# Altium footprint library RLC.PcbLib: 151 footprints (part 6 of 10)
Each footprint in its own frame and in the unit in brackets; x right, y up, seen from the top. Pads: shape width x height; smd on the part's side, far side on the other; paste and mask are expansions set on the pad; w line width, h text height; cw(c..) or ccw(c..) is an arc to the next point about the centre after c.
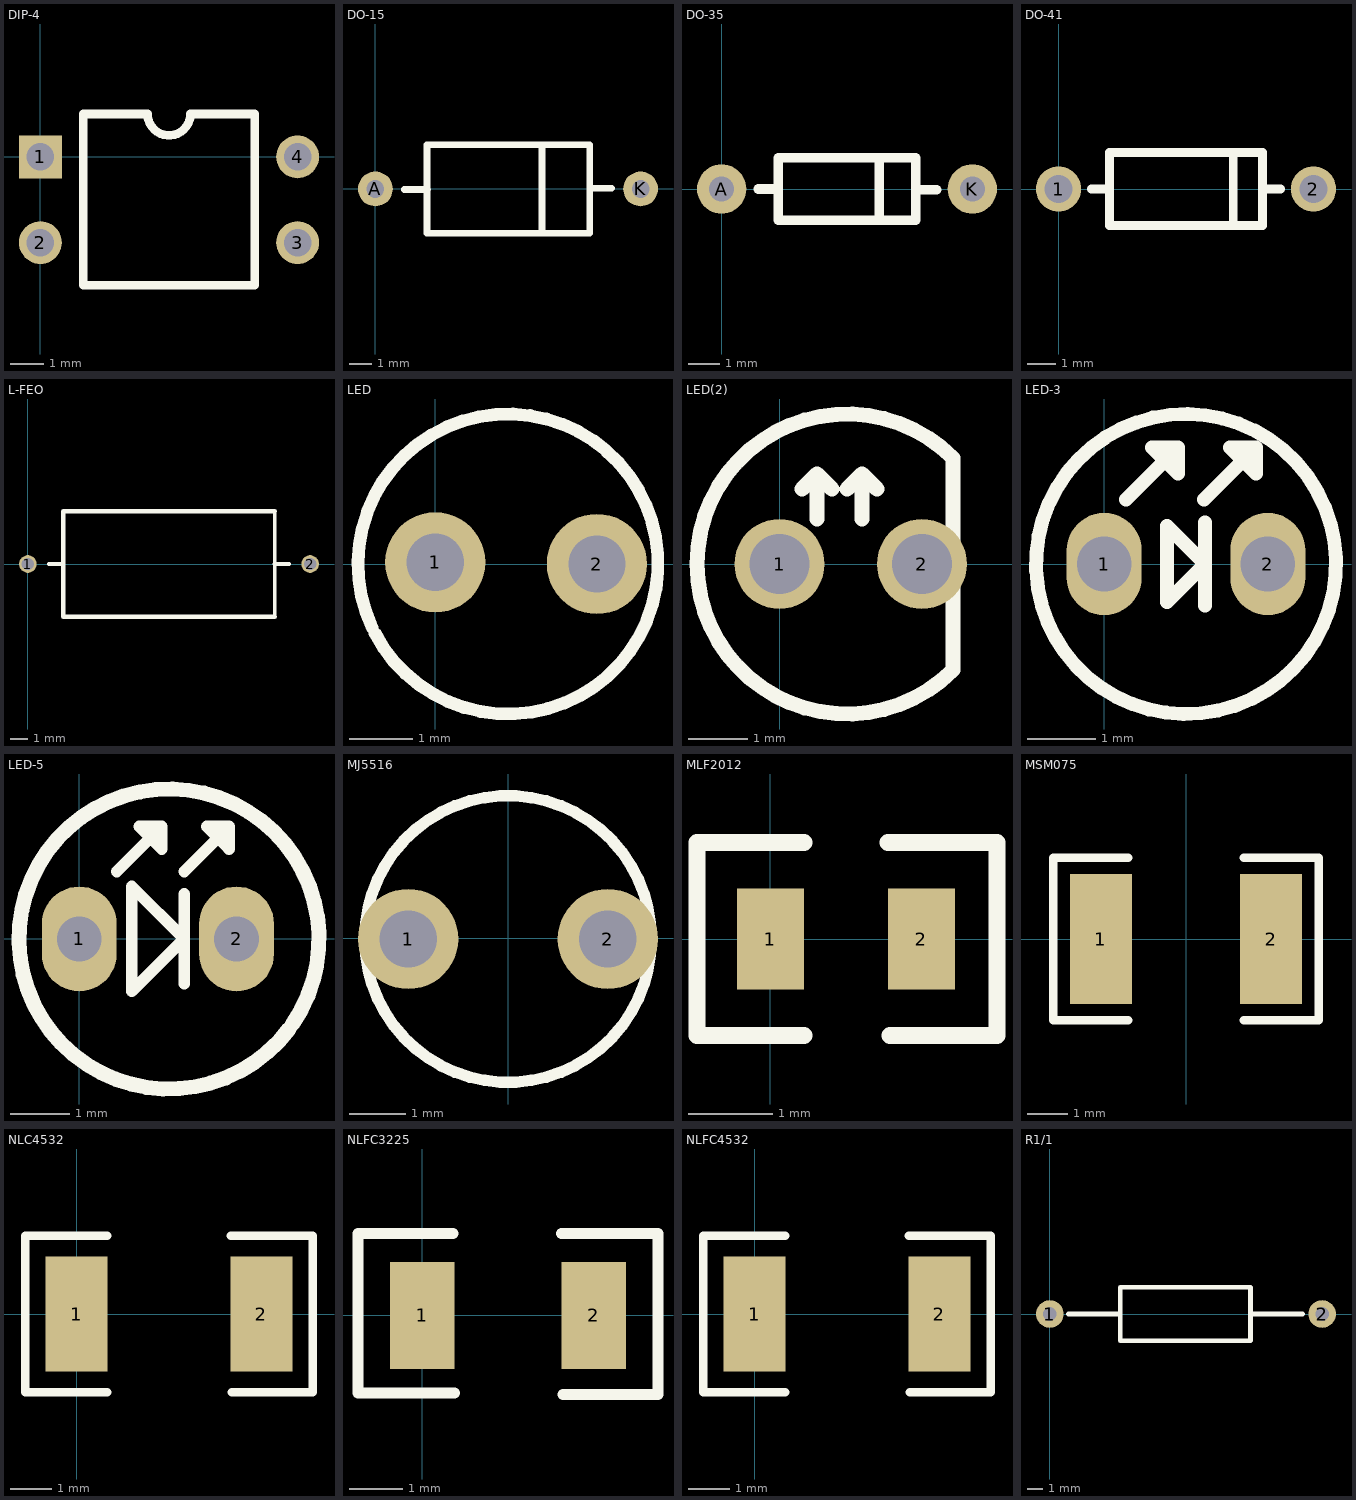
[diagram p5: the footprints below, top view; thin cyan lines are the x and y axes]

## DIP-4 [mil]
pads (4):
  rect 50x50 hole 32: 1(0,0)
  round 50 hole 32: 2(0,-100) 3(300,-100) 4(300,0)
Top Overlay:
  lines w10: 50,-150 250,-150 250,50 175,50 cw(c150,50) 125,50 50,50 50,-150

## DO-15 [mil]
pads (2):
  round 62 hole 31.5: A(0,0) K(472.44,0)
Top Overlay:
  lines w12: 51.18,-1 93,-1 ; 92,-78.74 381.89,-78.74 ; 92,-78 92,78.48 ; 92,78.74 381.89,78.74 ; 297,-78.74 297,78.74 ; 382,-79 382,78.48 ; 388,1 421.26,1

## DO-35 [mil]
pads (2):
  round 62 hole 31.5: A(0,0) K(314.96,0)
Top Overlay:
  lines w12: 46,0 71,0 ; 198,-39.37 198,39.37 ; 245,-1 270,-1 ; 71,-39.37 71,39.37 244,39.37 244,-39.37 71,-39.37

## DO-41 [mil]
pads (2):
  round 62 hole 38: 1(0,0) 2(350,0)
Top Overlay:
  lines w12: 45,0 70,0 ; 240,-50 240,50 ; 280,0 305,0 ; 70,-50 70,50 280,50 280,-50 70,-50

## L-FEO [mm]
pads (2):
  round 1 hole 0.7: 1(0,0) 2(16,0)
Top Overlay:
  lines w0.2: 14,-3 14,3
  lines w0.254: 1.2,0 2,0 ; 14,-3 2,-3 2,3 14,3 ; 14,0 14.8,0

## LED [mil]
pads (2):
  round 62 hole 35.43: 1(0,1) 2(100,0)
Top Overlay:
  lines w7.87: -38.95,-39.51 cw(c45,0) -37.34,-42.75

## LED(2) [mil]
pads (2):
  round 60 hole 40: 1(0,0) 2(95,0)
Top Overlay:
  lines w10: 15,50 25,60 ; 25,30 25,60 ; 35,50 25,60 ; 45,50 55,60 ; 55,30 55,60 ; 65,50 55,60 ; 115.71,-70.71 cw(c45,0) 115.71,70.71 115.71,-70.71

## LED-3 [mm]
pads (2):
  oval 1.1x1.5 hole 0.8: 1(0,0) 2(2.4,0)
Top Overlay:
  lines w0.203: 0.322,0.946 1.084,1.708 ; 1.465,0.946 2.227,1.708 ; 1.479,-0.61 1.479,0.61 ; 3.116,1.082 ccw(c1.2,0) 3.128,1.06 ; 1.084,1.708 1.084,1.327 0.703,1.708 1.084,1.708 ; 2.227,1.708 1.846,1.708 2.227,1.327 2.227,1.708 ; 0.921,-0.559 0.921,0.559 1.479,0 0.921,-0.559

## LED-5 [mil]
pads (2):
  oval 50x70 hole 30: 1(0,0) 2(105,0)
Top Overlay:
  lines w7.78: 25,45 55,75 ; 70,-30 70,30 ; 70,45 100,75 ; 55,75 55,60 40,75 55,75 ; 100,75 100,60 85,75 100,75 ; 35,-35 35,35 70,0 35,-35
  lines w10: 140,-60.15 cw(c59.9,-0.07) 142.31,-56.94

## MJ5516 [mil]
pads (2):
  round 70 hole 40: 1(-69.69,-0.35) 2(69.68,-0.35)
Top Overlay:
  circle w8: c0,-0.35 r100

## MLF2012 [mm]
pads (2):
  rect 0.8x1.2 smd: 1(0,0) 2(1.8,0)
Top Overlay:
  lines w0.203: 0.4,-1.15 -0.875,-1.15 -0.875,1.15 0.4,1.15 ; 1.4,1.15 2.7,1.15 2.7,-1.15 1.425,-1.15

## MSM075 [mm]
pads (2):
  rect 1.524x3.2 smd: 1(-2.1,0) 2(2.1,0)
Top Overlay:
  lines w0.203: -1.422,-2.007 -3.277,-2.007 -3.277,2.007 -1.422,2.007 ; 1.422,-2.007 3.277,-2.007 3.277,2.007 1.422,2.007

## NLC4532 [mm]
pads (2):
  rect 1.5x2.8 smd: 1(0,0) 2(4.5,0)
Top Overlay:
  lines w0.203: 0.75,-1.9 -1.25,-1.9 -1.25,1.9 0.75,1.9 ; 3.75,1.9 5.75,1.9 5.75,-1.9 3.775,-1.9

## NLFC3225 [mm]
pads (2):
  rect 1.2x2 smd: 1(0,0) 2(3.2,0)
Top Overlay:
  lines w0.203: 0.575,1.525 -1.199,1.525 -1.199,-1.45 0.6,-1.45 ; 2.6,1.525 4.399,1.525 4.399,-1.475 2.625,-1.475

## NLFC4532 [mm]
pads (2):
  rect 1.5x2.8 smd: 1(0,0) 2(4.5,0)
Top Overlay:
  lines w0.203: 0.75,-1.9 -1.25,-1.9 -1.25,1.9 0.75,1.9 ; 3.75,1.9 5.75,1.9 5.75,-1.9 3.775,-1.9

## R1/1 [mm]
pads (2):
  round 1.8 hole 0.9: 1(0,0) 2(17.78,0)
Top Overlay:
  lines w0.305: 1.2,0 4.6,0 ; 4.6,-1.75 4.6,1.75 13.1,1.75 13.1,-1.75 4.7,-1.75 ; 13.1,0 16.5,0